# Altium integrated library SN74LVC4245APWR.IntLib: 1 symbol
Pins are listed as number, name and electrical type; pins without a type are passive.

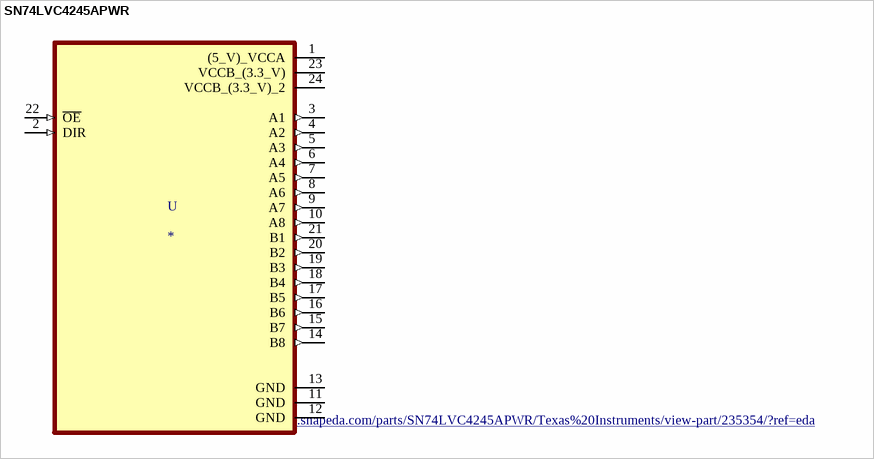
[diagram p0: symbol SN74LVC4245APWR]

## SN74LVC4245APWR
designator U
8 ì§„ë²• ë²„ìŠ¤ íŠ¸ëžœì‹œë²„ ë° 3.3V ~ 5V ì‹œí”„í„° (3- ìƒíƒœ ì¶œë ¥ í¬í•¨) 24-TSSOP -40 ~ 85; MP: SN74LVC4245APWR; MF: Texas Instruments; DigiKey-Purchase-URL: https://snapeda.com/shop?store=DigiKey&id=235354; Package: TSSOP-24 Texas Instruments; Availability: Good; Price: None; Mouser-Purchase-URL: https://snapeda.com/shop?store=Mouser&id=235354; Texas_Instruments-Purchase-URL: https://snapeda.com/shop?store=Texas+Instruments&id=235354; SnapEDA_Link: https://www.snapeda.com/parts/SN74LVC4245APWR/Texas%20Instruments/view-part/235354/?ref=snap; Value: *; BuyPart: https://www.snapeda.com/parts/SN74LVC4245APWR/Texas%20Instruments/view-part/235354/?ref=eda
footprint SOP65P640X120-24N
pins: 1 (5_V)_VCCA (power), 2 DIR (in), 3 A1 (out), 4 A2 (out), 5 A3 (out), 6 A4 (out), 7 A5 (out), 8 A6 (out), 9 A7 (out), 10 A8 (out), 11 GND (power), 12 GND (power), 13 GND (power), 14 B8 (out), 15 B7 (out), 16 B6 (out), 17 B5 (out), 18 B4 (out), 19 B3 (out), 20 B2 (out), 21 B1 (out), 22 ~{OE} (in), 23 VCCB_(3.3_V) (power), 24 VCCB_(3.3_V)_2 (power)